# EAGLE library part MCP2518FDT-E/SL (library TImingBoardPartLibrary)
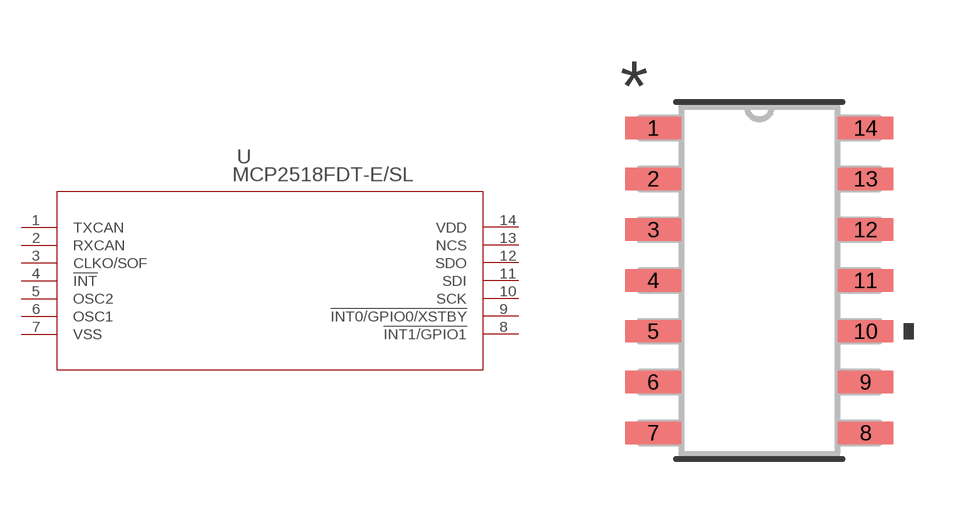
[diagram p4: symbol with the pads of SOIC14_SL_MCH; footprint SOIC14_SL_MCH]

Designator prefix -

## MCP2518FDT-E/SL (LCSC: C626758)  [SOIC14_SL_MCH]
1  TXCAN  out
2  RXCAN  in
3  CLKO/SOF  out
4  !INT  out
5  OSC2  out
6  OSC1  in
7  VSS  pas
8  !INT1/GPIO1
9  !INT0/GPIO0/XSTBY
10  SCK  in
11  SDI  in
12  SDO  out
13  NCS  in
14  VDD  pwr

## Footprint SOIC14_SL_MCH (pad centres in mm)
smd 1.397 x 0.559: 1 -2.654,3.81; 2 -2.654,2.54; 3 -2.654,1.27; 4 -2.654,0; 5 -2.654,-1.27; 6 -2.654,-2.54; 7 -2.654,-3.81; 8 2.654,-3.81; 9 2.654,-2.54; 10 2.654,-1.27; 11 2.654,0; 12 2.654,1.27; 13 2.654,2.54; 14 2.654,3.81